# Altium schematic symbol library M74VHC1G125DFT2G.SchLib: 1 symbol
Pins are listed as number, name and electrical type; pins without a type are passive.

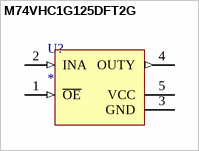
[diagram p0: symbol M74VHC1G125DFT2G]

## M74VHC1G125DFT2G
designator U?
pins: 1 ~{OE} (in), 2 INA (in), 3 GND (power), 4 OUTY (out), 5 VCC (power)